# Altium schematic symbol library ELECTRONIC LOAD.SchLib: 22 symbols
Pins are listed as number, name and electrical type; pins without a type are passive.

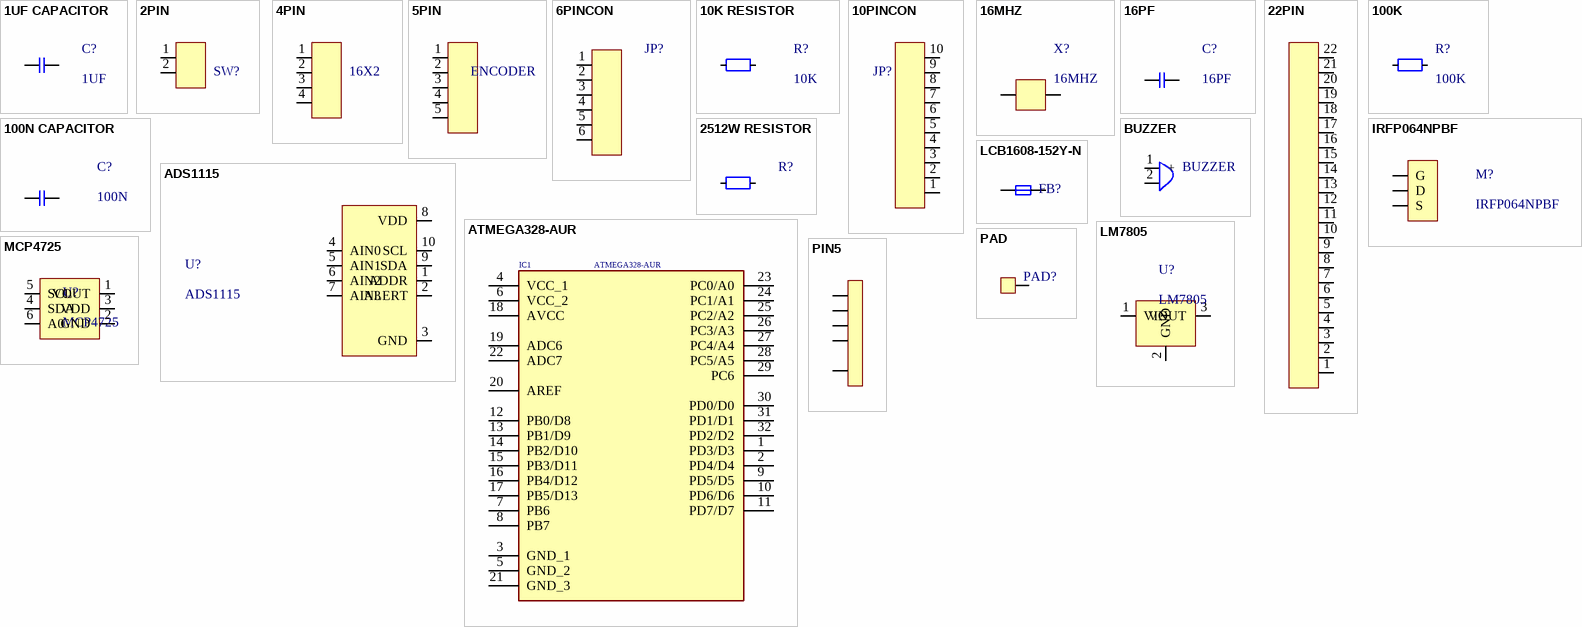
[diagram p0: symbols 1UF CAPACITOR to PIN5]

## 1UF CAPACITOR
designator C?, comment 1UF
0603 CAPACITOR
footprint C-0805W (capacitor 0805 wave soldering)
pins: 1, 2

## 2PIN
designator SW?, comment SWITCH  (value not drawn)
footprint 2PIN
pins: 1, 2

## 4PIN
designator 16X2, comment 16X2  (value not drawn)
footprint 4PIN
pins: 1, 2, 3, 4

## 5PIN
designator ENCODER, comment ENCODER  (value not drawn)
footprint 5PIN
pins: 1, 2, 3, 4, 5

## 6PINCON
designator JP?, comment JP  (value not drawn)
6PIN
footprint 6pinCon
pins: 1, 2, 3, 4, 5, 6

## 10K RESISTOR
designator R?, comment 10K
footprint R-0805W (resistor 0805 wave soldering)
pins: 1, 2

## 10PINCON
designator JP?, comment 10PIN  (value not drawn)
footprint 10pinCon
pins: 1, 2, 3, 4, 5, 6, 7, 8, 9, 10

## 16MHZ
designator X?
footprint 16MHZ CRYSTAL
pins: 1, 2

## 16PF
designator C?
footprint C-0805W (capacitor 0805 wave soldering)
pins: 1, 2

## 22PIN
designator PIN, comment PIN  (value not drawn)
footprint 20PINCON
pins: 1, 2, 3, 4, 5, 6, 7, 8, 9, 10, 11, 12, 13, 14, 15, 16, 17, 18, 19, 20, 21, 22

## 100K
designator R?
footprint R-0805W (resistor 0805 wave soldering)
pins: 1, 2

## 100N CAPACITOR
designator C?, comment 100N
footprint C-0805W (capacitor 0805 wave soldering)
pins: 1, 2

## 2512W RESISTOR
designator R?, comment 2512W  (value not drawn)
footprint R-2512W (resistor 2512 wave soldering)
pins: 1, 2

## ADS1115
designator U?
footprint ADS1115 (TSSOP, 10-Leads, Body 3,00x3,00mm, Pitch 0,50mm, IPC Medium Density)
pins: 1 ADDR, 2 ALERT, 3 GND, 4 AIN0, 5 AIN1, 6 AIN2, 7 AIN3, 8 VDD, 9 SDA, 10 SCL

## ATMEGA328-AUR
designator IC1
Manufacturer_Name: Microchip; Datasheet Link: https://componentsearchengine.com/Datasheets/1/ATMEGA328-AUR.pdf; Height: 1.2mm; Manufacturer_Part_Number: ATMEGA328-AUR; Mouser Part Number: 556-ATMEGA328-AUR; Mouser Price/Stock: https://www.mouser.co.uk/ProductDetail/Microchip-Technology-Atmel/ATMEGA328-AUR/?qs=lwdSMh1%2FoYLfe%252B5OKFEFrw%3D%3D; Arrow Part Number: ATMEGA328-AUR; Arrow Price/Stock: https://www.arrow.com/en/products/atmega328-aur/microchip-technology
footprint ATMEGA328
pins: 1 PD3/D3, 2 PD4/D4, 3 GND_1, 4 VCC_1, 5 GND_2, 6 VCC_2, 7 PB6, 8 PB7, 9 PD5/D5, 10 PD6/D6, 11 PD7/D7, 12 PB0/D8, 13 PB1/D9, 14 PB2/D10, 15 PB3/D11, 16 PB4/D12, 17 PB5/D13, 18 AVCC, 19 ADC6, 20 AREF, 21 GND_3, 22 ADC7, 23 PC0/A0, 24 PC1/A1, 25 PC2/A2, 26 PC3/A3, 27 PC4/A4, 28 PC5/A5, 29 PC6, 30 PD0/D0, 31 PD1/D1, 32 PD2/D2

## BUZZER
designator BUZZER  (value not drawn)
YX-YT12075-YT03D
footprint BUZZER
pins: 1 +, 2 -

## IRFP064NPBF
designator M?
TO247
footprint TO247
pins: 1 G, 2 D, 3 S

## LCB1608-152Y-N
designator FB?, comment FB  (value not drawn)
footprint R-0603W (resistor 0603 wave soldering)
pins: 1, 2

## LM7805
designator U?
footprint TO-252
pins: 1 VIN, 2 GND, 3 VOUT

## MCP4725
designator U?
SOT23-6
footprint sot23-6 (SOT23, 6-Leads, Body 2,90x2,70mm, Pitch 0,95mm, IPC Medium Density)
pins: 1 VOUT, 2 GND, 3 VDD, 4 SDA, 5 SCL, 6 A0

## PAD
designator PAD?  (value not drawn)
footprint PAD
pins: 1

## PIN5
designator PIN, comment PIN  (value not drawn)
footprint 5PIN
pins: 1, 2, 3, 4, 5